# Altium schematic symbol library Connector.SchLib: 1 symbol
Pins are listed as number, name and electrical type; pins without a type are passive.

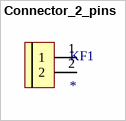
[diagram p0: symbol Connector_2_pins]

## Connector_2_pins
designator KF1
footprint CON2_P196_1729128_TH_ST (Terminal Block)
pins: 1, 2